# EAGLE library part 75ALS176 (library lm5007)
DIFFERENTIAL BUS TRANSCEIVERS TIA/EIA-422-B, TIA/EIA-422-B + TIA/EIA-422-B TIA/EIA-422-B Operate at Data Rates up to 35 Mbaud Source: http://focus.ti.com/lit/ds/symlink/sn65als176.pdf
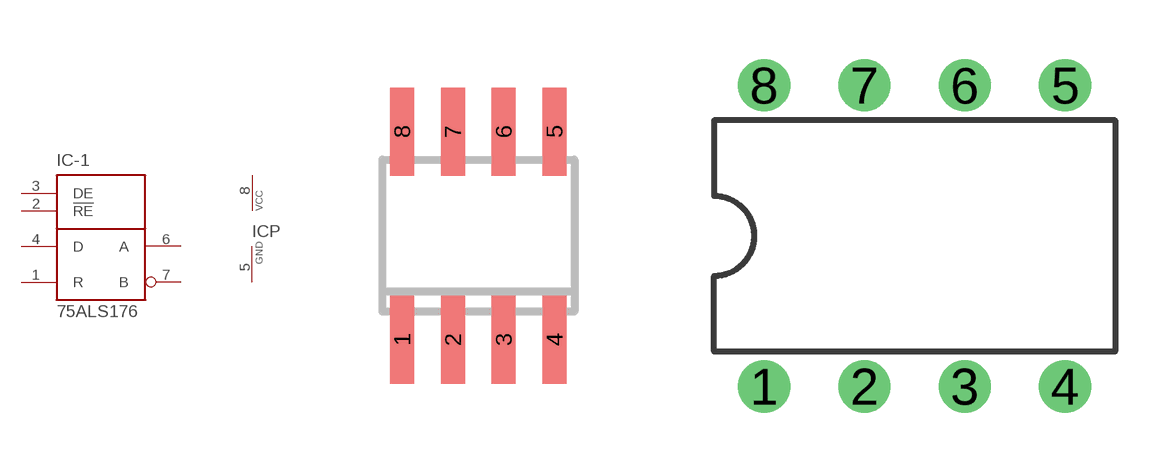
[diagram p34: symbol with the pads of SO-08; footprints SO-08, DIL08]

Designator prefix IC; gates -1=75ALS176 P=VCCGND

## 75ALS176D (MF: TEXAS INSTRUMENTS; MPN: SN75ALS176D; OC_FARNELL: 9593020; OC_NEWARK: 08F8011), 75ALS176AD (MF: TEXAS INSTRUMENTS; MPN: SN75ALS176AD; OC_FARNELL: 1410742; OC_NEWARK: 76C5099), 75ALS176BD (MF: TEXAS INSTRUMENTS; MPN: SN75ALS176BD; OC_FARNELL: 9593012; OC_NEWARK: 35K0833)  [SO-08]
1  -1:R  out
2  -1:!RE  in
3  -1:DE  in
4  -1:D  in
5  P:GND  pwr
6  -1:A
7  -1:B
8  P:VCC  pwr

## 75ALS176P (MF: TEXAS INSTRUMENTS; MPN: SN75ALS176P; OC_FARNELL: 1103021; OC_NEWARK: 60K6915)  [DIL08]
Pads as for SO-08

## Footprint SO-08 (pad centres in mm)
D (R-PDSO-G8) Plastic Small Outline Package Source: http://focus.ti.com/lit/ds/symlink/sn65als176.pdf
smd 0.6 x 2.2: 1 -1.905,-2.6; 2 -0.635,-2.6; 3 0.635,-2.6; 4 1.905,-2.6; 5 1.905,2.6; 6 0.635,2.6; 7 -0.635,2.6; 8 -1.905,2.6

## Footprint DIL08 (pad centres in mm)
Dual In Line Package
drill 0.813 pad 1.27: 1 -3.81,-3.81; 2 -1.27,-3.81; 3 1.27,-3.81; 4 3.81,-3.81; 5 3.81,3.81; 6 1.27,3.81; 7 -1.27,3.81; 8 -3.81,3.81